# EAGLE library part STM32F373R (library stmicroelectronics)
STM32F373Rx
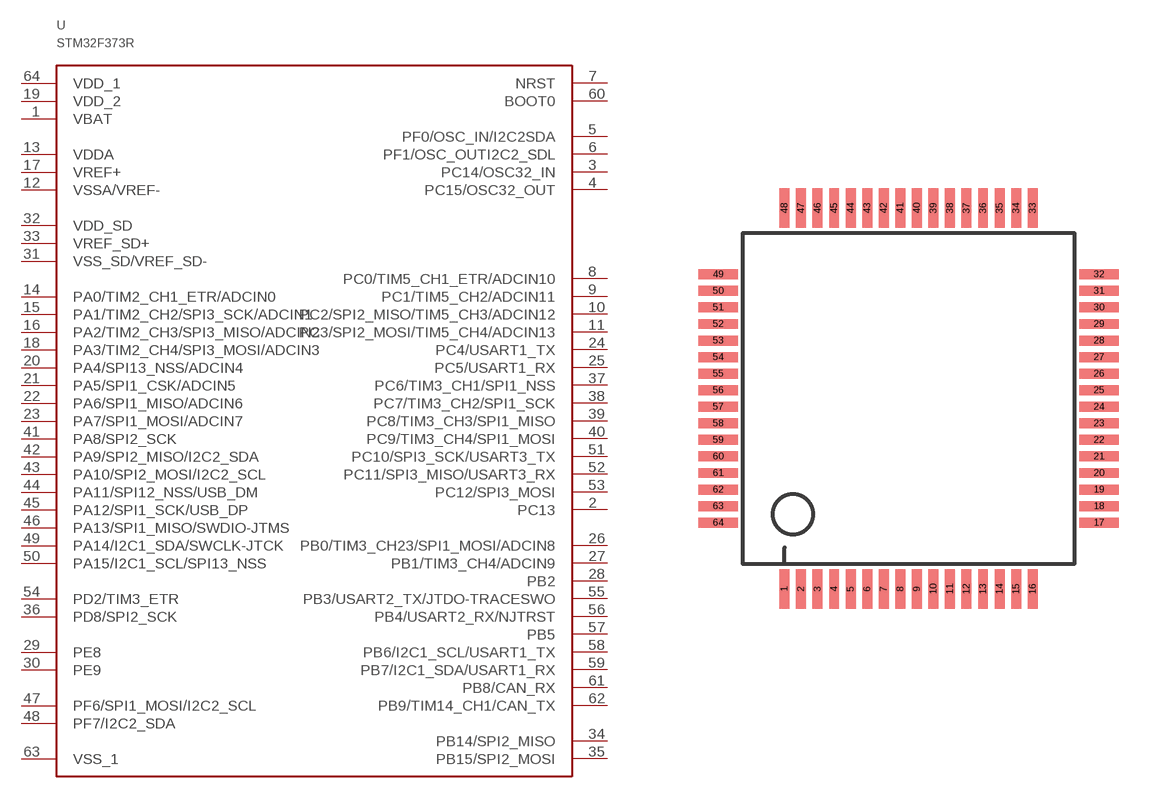
[diagram p2: symbol with the pads of LQFP64; footprint LQFP64]

Designator prefix -

## STM32F373R8 (FLASH: 64k; SRAM: 16k), STM32F373RB (FLASH: 128k; SRAM: 24k), STM32F373RC (FLASH: 256k; SRAM: 32k)  [LQFP64]
1  VBAT
2  PC13
3  PC14/OSC32_IN
4  PC15/OSC32_OUT
5  PF0/OSC_IN/I2C2SDA
6  PF1/OSC_OUTI2C2_SDL
7  NRST
8  PC0/TIM5_CH1_ETR/ADCIN10
9  PC1/TIM5_CH2/ADCIN11
10  PC2/SPI2_MISO/TIM5_CH3/ADCIN12
11  PC3/SPI2_MOSI/TIM5_CH4/ADCIN13
12  VSSA/VREF-
13  VDDA
14  PA0/TIM2_CH1_ETR/ADCIN0
15  PA1/TIM2_CH2/SPI3_SCK/ADCIN1
16  PA2/TIM2_CH3/SPI3_MISO/ADCIN2
17  VREF+
18  PA3/TIM2_CH4/SPI3_MOSI/ADCIN3
19  VDD_2
20  PA4/SPI13_NSS/ADCIN4
21  PA5/SPI1_CSK/ADCIN5
22  PA6/SPI1_MISO/ADCIN6
23  PA7/SPI1_MOSI/ADCIN7
24  PC4/USART1_TX
25  PC5/USART1_RX
26  PB0/TIM3_CH23/SPI1_MOSI/ADCIN8
27  PB1/TIM3_CH4/ADCIN9
28  PB2
29  PE8
30  PE9
31  VSS_SD/VREF_SD-
32  VDD_SD
33  VREF_SD+
34  PB14/SPI2_MISO
35  PB15/SPI2_MOSI
36  PD8/SPI2_SCK
37  PC6/TIM3_CH1/SPI1_NSS
38  PC7/TIM3_CH2/SPI1_SCK
39  PC8/TIM3_CH3/SPI1_MISO
40  PC9/TIM3_CH4/SPI1_MOSI
41  PA8/SPI2_SCK
42  PA9/SPI2_MISO/I2C2_SDA
43  PA10/SPI2_MOSI/I2C2_SCL
44  PA11/SPI12_NSS/USB_DM
45  PA12/SPI1_SCK/USB_DP
46  PA13/SPI1_MISO/SWDIO-JTMS
47  PF6/SPI1_MOSI/I2C2_SCL
48  PF7/I2C2_SDA
49  PA14/I2C1_SDA/SWCLK-JTCK
50  PA15/I2C1_SCL/SPI13_NSS
51  PC10/SPI3_SCK/USART3_TX
52  PC11/SPI3_MISO/USART3_RX
53  PC12/SPI3_MOSI
54  PD2/TIM3_ETR
55  PB3/USART2_TX/JTDO-TRACESWO
56  PB4/USART2_RX/NJTRST
57  PB5
58  PB6/I2C1_SCL/USART1_TX
59  PB7/I2C1_SDA/USART1_RX
60  BOOT0
61  PB8/CAN_RX
62  PB9/TIM14_CH1/CAN_TX
63  VSS_1
64  VDD_1

## Footprint LQFP64 (pad centres in mm)
LQFP64
smd 0.3 x 1.2: 1 -3.75,-5.75; 2 -3.25,-5.75; 3 -2.75,-5.75; 4 -2.25,-5.75; 5 -1.75,-5.75; 6 -1.25,-5.75; 7 -0.75,-5.75; 8 -0.25,-5.75; 9 0.25,-5.75; 10 0.75,-5.75; 11 1.25,-5.75; 12 1.75,-5.75; 13 2.25,-5.75; 14 2.75,-5.75; 15 3.25,-5.75; 16 3.75,-5.75; 33 3.75,5.75; 34 3.25,5.75; 35 2.75,5.75; 36 2.25,5.75; 37 1.75,5.75; 38 1.25,5.75; 39 0.75,5.75; 40 0.25,5.75; 41 -0.25,5.75; 42 -0.75,5.75; 43 -1.25,5.75; 44 -1.75,5.75; 45 -2.25,5.75; 46 -2.75,5.75; 47 -3.25,5.75; 48 -3.75,5.75
smd 1.2 x 0.3: 17 5.75,-3.75; 18 5.75,-3.25; 19 5.75,-2.75; 20 5.75,-2.25; 21 5.75,-1.75; 22 5.75,-1.25; 23 5.75,-0.75; 24 5.75,-0.25; 25 5.75,0.25; 26 5.75,0.75; 27 5.75,1.25; 28 5.75,1.75; 29 5.75,2.25; 30 5.75,2.75; 31 5.75,3.25; 32 5.75,3.75; 49 -5.75,3.75; 50 -5.75,3.25; 51 -5.75,2.75; 52 -5.75,2.25; 53 -5.75,1.75; 54 -5.75,1.25; 55 -5.75,0.75; 56 -5.75,0.25; 57 -5.75,-0.25; 58 -5.75,-0.75; 59 -5.75,-1.25; 60 -5.75,-1.75; 61 -5.75,-2.25; 62 -5.75,-2.75; 63 -5.75,-3.25; 64 -5.75,-3.75